# Altium schematic symbol library CON-RJ45-10-RA.Schlib: 1 symbol
Pins are listed as number, name and electrical type; pins without a type are passive.

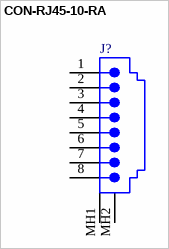
[diagram p0: symbol CON-RJ45-10-RA]

## CON-RJ45-10-RA
designator J?
Right Angle, Standard Profile, External Shield PCB Jack
pins: 1, 2, 3, 4, 5, 6, 7, 8, MH1 Shield, MH2 Shield